# Altium schematic symbol library DISP,OLED,64x64,Color.Schlib: 1 symbol
Pins are listed as number, name and electrical type; pins without a type are passive.

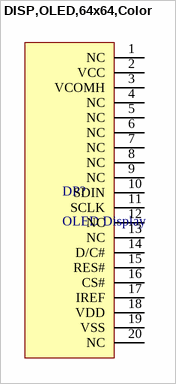
[diagram p0: symbol DISP,OLED,64x64,Color]

## DISP,OLED,64x64,Color
designator DP?, comment OLED Display
Graphic LCD Display Module Transflective Red, Green, Blue (RGB) OLED SPI 0.6" (15.24mm) 64 x 64
pins: 1 NC, 2 VCC, 3 VCOMH, 4 NC, 5 NC, 6 NC, 7 NC, 8 NC, 9 NC, 10 SDIN, 11 SCLK, 12 NC, 13 NC, 14 D/C#, 15 RES#, 16 CS#, 17 IREF, 18 VDD, 19 VSS, 20 NC